# EAGLE library part TL082 (library MCE_CircuitosIntegrados)
TL08xx FET-Input Operational Amplifiers https://www.ti.com/lit/ds/symlink/tl082.pdf?ts=1719557406285
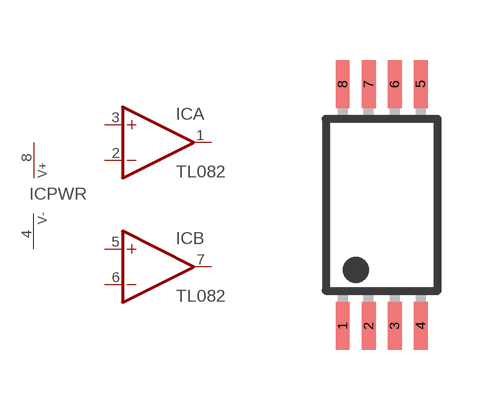
[diagram p23: symbol with the pads of TSSOP8; footprint TSSOP8]

Designator prefix IC; gates B=OPAMP A=OPAMP PWR=PWRN2

## TL082  [TSSOP8]
1  A:OUT  out
2  A:-IN  in
3  A:+IN  in
4  PWR:V-  pwr
5  B:+IN  in
6  B:-IN  in
7  B:OUT  out
8  PWR:V+  pwr

## Footprint TSSOP8 (pad centres in mm)
Thin Shrink Small Outline Plastic 8 3 x 4.4 mm
smd 0.35 x 1.2: 1 -0.975,-3.025; 2 -0.325,-3.025; 3 0.325,-3.025; 4 0.975,-3.025; 5 0.975,3.025; 6 0.325,3.025; 7 -0.325,3.025; 8 -0.975,3.025